# Altium schematic symbol library ebf EP4CE10 Mini_20200309_原理图库_AD格式.SCHLIB: 99 symbols
Pins are listed as number, name and electrical type; pins without a type are passive.

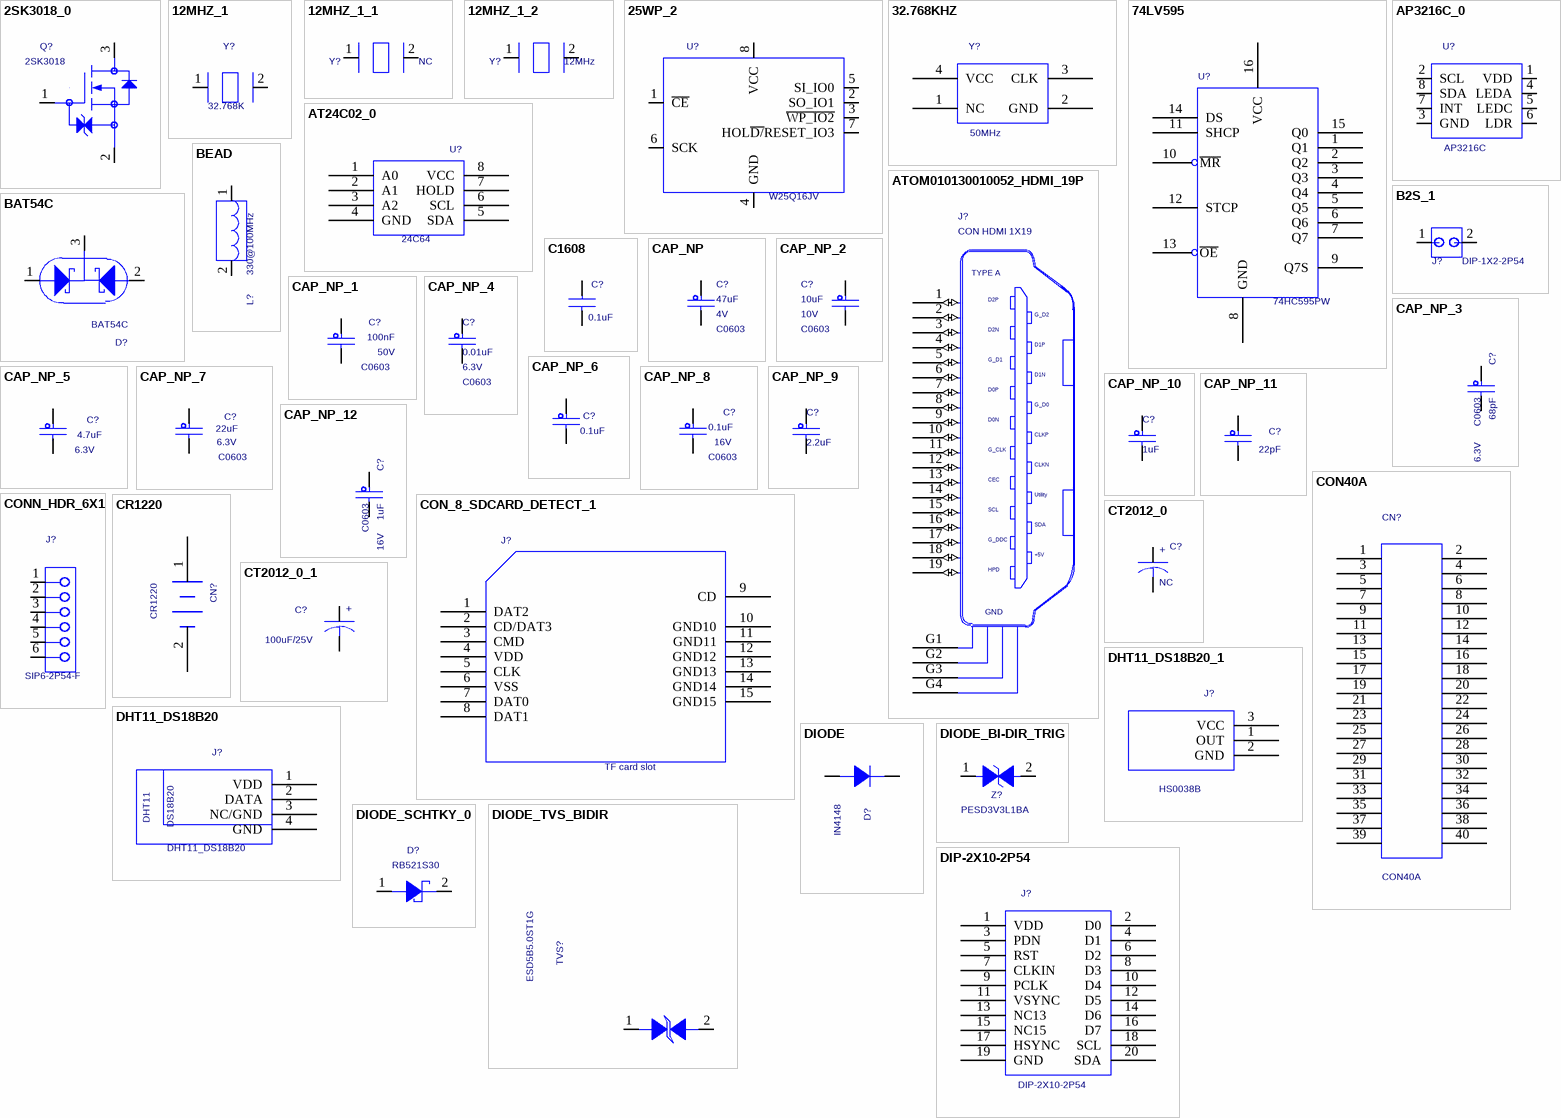
[diagram p0: symbols 2SK3018_0 to DIP-2X10-2P54]

## 2SK3018_0
designator Q?  value 2SK3018  (hidden comment: 2SK3018_0)
TRANS MOSFET N-CH 30V .1A SOT-323; PCB DECAL: SOT23; CAD_APPROVED: Yes; MFG_PN01: 2SK3018T106; MFG_NAME01: ROHM; AGILE_PN: 480-75317; Source_Path: H:\NXP_RT1050\SCH\CORE_SCH\IMXRT1052_180113.DSN; CLASS: IC; HEIGHT: 0.9MM; ROHS: Yes
footprint SOT23
pins: 1 GATE, 2 SOURCE, 3 DRAIN

## 12MHZ_1
designator Y?  value 32.768K  (hidden comment: 12MHZ_1)
PCB DECAL: 3215; Source_Path: H:\NXP_RT1050\SCH\IMXRT1052_MB.DSN
footprint 3215
pins: 1, 2

## 12MHZ_1_1
designator Y?, comment value NC  (hidden comment: 12MHZ_1)
PCB DECAL: XTAL-DIP; Source_Path: H:\NXP_RT1050\SCH\IMXRT1052_MB.DSN
footprint XTAL-DIP
pins: 1, 2

## 12MHZ_1_2
designator Y?, comment value 12MHz  (hidden comment: 12MHZ_1)
PCB DECAL: XTAL_SMD; Source_Path: H:\NXP_RT1050\SCH\IMXRT1052_MB.DSN
footprint XTAL_SMD
pins: 1, 2

## 25WP_2
designator U?  value W25Q16JV  (hidden comment: 25WP_2)
IC MEM FLASH QPI 64Mb 1.65-1.95V SOIC8W; PCB DECAL: SOIC8-208; CAD_APPROVED: Yes; Temp_Range: -40C to +105C; MFG_PN01: IS25WP064A-JBLE; MFG_NAME01: ISSI; AGILE_PN: 334-77734; Source_Path: H:\NXP_RT1050\SCH\SCHLIB\IMXRT1052_1205.DSN; HEIGHT: 2.16MM; ROHS: Yes; CLASS: IC
footprint SOIC8-208
pins: 1 ~{CE}, 2 SO_IO1, 3 ~{WP_IO2}, 4 GND (power), 5 SI_IO0, 6 SCK, 7 HOL~{D/}RESET_IO3, 8 VCC (power)

## 32.768KHZ
designator Y?  value 50MHz  (hidden comment: 32.768KHZ)
PCB DECAL: 3225; Source_Path: F:\NXP\I.MX6UL\SCH\IMX6UL.OLB
footprint 3225
pins: 1 NC, 2 GND, 3 CLK, 4 VCC

## 74LV595
designator U?  value 74HC595PW  (hidden comment: 74LV595)
IC REG S 8BIT TS 1.0-3.6V TSSOP16; AGILE_PN: 312-79843; MFG_NAME01: PHILIPS SEMICONDUCTOR; MFG_PN01: 74LV595PW; CAD_APPROVED: Yes; Source_Path: Q:\ORCADCIS\SYMBOLS\FCL_IC5.OLB; PCB DECAL: TSSOP16; ROHS: Yes; HEIGHT: 1.1MM; CLASS: IC
footprint TSSOP16
pins: 1 Q1, 2 Q2, 3 Q3, 4 Q4, 5 Q5, 6 Q6, 7 Q7, 8 GND (power), 9 Q7S, 10 ~{MR}, 11 SHCP, 12 STCP, 13 ~{OE}, 14 DS, 15 Q0, 16 VCC (power)

## AP3216C_0
designator U?  value AP3216C  (hidden comment: AP3216C_0)
Source_Path: D:\NXP_RT1050\RT1050_MB_PRO\SCH\IMXRT1052_MB_PRO_0414.DSN; PCB DECAL: AP3216C
footprint AP3216C
pins: 1 VDD, 2 SCL, 3 GND, 4 LEDA, 5 LEDC, 6 LDR, 7 INT, 8 SDA

## AT24C02_0
designator U?  value 24C64  (hidden comment: AT24C02_0)
PCB DECAL: SOP8; Source_Path: F:\STM32\F407\F407 PRO\SCH\野火_F407霸天虎_原理图_V2.0.DSN; OriginalSymbolOrigin: (-20000,30000)
footprint SOP8
pins: 1 A0, 2 A1, 3 A2, 4 GND, 5 SDA, 6 SCL, 7 HOLD, 8 VCC

## ATOM010130010052_HDMI_19P
designator J?  value CON HDMI 1X19  (hidden comment: ATOM010130010052_HDMI_19P)
CON 1X19 HDMI SMT 0.5MM 249H AU --; PCB DECAL: CON_RA_HDMI_19P_0P5_SM; AGILE_PN: 211-79674; MFG_NAME01: SHENZHEN ATOM TECHNOLOGY CO.,LTD; MFG_PN01: HD119F-3A04202; ASSY_OPT: DNP; CAD_APPROVED: Yes; Source_Path: Q:\ORCADCIS\SYMBOLS\FCL_CONNECTOR.OLB; CLASS: IO; OriginalSymbolOrigin: (-200,650); Vendor: Comtek; VPN: 1166-2C105-211; ROHS: Yes; HEIGHT: 6.33MM
footprint CON_RA_HDMI_19P_0P5_SM
pins: 1 D2+ (io), 2 D2GND (io), 3 D2- (io), 4 D1+ (io), 5 D1GND (io), 6 D1- (io), 7 D0+ (io), 8 D0GND (io), 9 D0- (io), 10 CK+ (io), 11 CKGND (io), 12 CK- (io), 13 CEC (io), 14 UTILITY (io), 15 SCL (io), 16 SDA (io), 17 DDCGND (io), 18 +5V (io), 19 HPD (io), G1 GND1 (power), G2 GND2 (power), G3 GND3 (power), G4 GND4 (power)
text: TYPE A; D2P; G_D2; D2N; D1P; G_D1; D1N; D0P; G_D0; D0N; CLKP; G_CLK; CLKN; Utility; G_DDC; GND

## B2S_1
designator J?  value DIP-1X2-2P54  (hidden comment: B2S_1)
PCB DECAL: HDR102; Source_Path: F:\STM32\F429\SCH\V4\STM32F429_F767_H743_MB_1129.DSN
footprint HDR102
pins: 1, 2

## BAT54C
designator D?
PCB DECAL: SOT23; Source_Path: C:\MYPROGRAM\CADENCE\SPB_16.6\TOOLS\CAPTURE\LIBRARY\SCH.OLB; Value: BAT54C
footprint SOT23
pins: 1 ANODE, 2 NC, 3 CATHODE

## BEAD
designator L?  value 330@100MHz  (hidden comment: BEAD)
IND FER BEAD 330OHM@100MHZ 1.7A 0603; PART_TYPE: FERRITE\BEAD; TOL: 25%; CAD_APPROVED: Yes; MFG_PN01: MPZ1608S331A; MFG_NAME01: TDK; AGILE_PN: 180-78156; PCB DECAL: L0603; Source_Path: Q:\ORCADCIS\SYMBOLS\FCL_INDUCTOR.OLB; CLASS: DISCRETE; HEIGHT: 0.95MM; ROHS: Yes; Tolerance: 25%
footprint L0603
pins: 1, 2

## C1608
designator C?  value 0.1uF  (hidden comment: C1608)
PCB DECAL: C0603; Source_Path: D:\SOPGODS_VIEW_AP\MOBILE_AP_APPLICATION\LIBRARY\ORCAD\DEVICE.OLB
footprint C0603
pins: 1, 2

## CAP_NP
designator C?  value 47uF  PCB DECAL: C0603  voltage_rating: 4V  (hidden comment: CAP_NP)
CAP CER 22UF 6.3V 20% X5R 0603; FPLIST: CC0603_OV,CC0603,0603_CC; CAD_APPROVED: Yes; MFG_PN01: CL10A226MQ8NRNE; MFG_NAME01: Samsung; AGILE_PN: 150-78467; Source_Path: Q:\ORCADCIS\SYMBOLS\FCL_CAPACITOR.OLB; CLASS: DISCRETE; VOLTAGE: 6.3V; HEIGHT: 1MM; ROHS: Yes; Tolerance: 20%
footprint C0603
pins: 1, 2

## CAP_NP_1
designator C?, comment value 100nF  PCB DECAL: C0603  voltage_rating: 50V  (hidden comment: CAP_NP)
CAP CER 22UF 6.3V 20% X5R 0603; FPLIST: CC0603_OV,CC0603,0603_CC; CAD_APPROVED: Yes; MFG_PN01: CL10A226MQ8NRNE; MFG_NAME01: Samsung; AGILE_PN: 150-78467; Source_Path: Q:\ORCADCIS\SYMBOLS\FCL_CAPACITOR.OLB; CLASS: DISCRETE; VOLTAGE: 6.3V; HEIGHT: 1MM; ROHS: Yes; Tolerance: 20%
footprint C0603
pins: 1, 2

## CAP_NP_2
designator C?, comment value 10uF  PCB DECAL: C0603  voltage_rating: 10V  (hidden comment: CAP_NP)
CAP CER 22UF 6.3V 20% X5R 0603; FPLIST: CC0603_OV,CC0603,0603_CC; CAD_APPROVED: Yes; MFG_PN01: CL10A226MQ8NRNE; MFG_NAME01: Samsung; AGILE_PN: 150-78467; Source_Path: Q:\ORCADCIS\SYMBOLS\FCL_CAPACITOR.OLB; CLASS: DISCRETE; VOLTAGE: 6.3V; HEIGHT: 1MM; ROHS: Yes; Tolerance: 20%
footprint C0603
pins: 1, 2

## CAP_NP_3
designator C?, comment value 68pF  PCB DECAL: C0603  VOLTAGE: 6.3V  (hidden comment: CAP_NP)
CAP CER 0.22UF 6.3V 20% X5R 0402; FPLIST: CC0402_25,CC0402_HD,0402_CC; CAD_APPROVED: Yes; MFG_PN01: C0402C224M9PAC; MFG_NAME01: KEMET; AGILE_PN: 150-76271; Source_Path: Q:\ORCADCIS\SYMBOLS\FCL_CAPACITOR.OLB; CLASS: DISCRETE; HEIGHT: 0.55MM; ROHS: Yes; Tolerance: 20%
footprint C0603
pins: 1, 2

## CAP_NP_4
designator C?, comment value 0.01uF  PCB DECAL: C0603  VOLTAGE: 6.3V  (hidden comment: CAP_NP)
CAP CER 0.22UF 6.3V 20% X5R 0402; FPLIST: CC0402_25,CC0402_HD,0402_CC; CAD_APPROVED: Yes; MFG_PN01: C0402C224M9PAC; MFG_NAME01: KEMET; AGILE_PN: 150-76271; Source_Path: Q:\ORCADCIS\SYMBOLS\FCL_CAPACITOR.OLB; CLASS: DISCRETE; HEIGHT: 0.55MM; ROHS: Yes; Tolerance: 20%
footprint C0603
pins: 1, 2

## CAP_NP_5
designator C?, comment value 4.7uF  voltage_rating: 6.3V  (hidden comment: CAP_NP)
CAP CER 4.7UF 6.3V 20% X5R 0402; FPLIST: CC0402_25,CC0402_HD,0402_CC; CAD_APPROVED: Yes; MFG_PN01: C1005X5R0J475M050BC; MFG_NAME01: TDK; AGILE_PN: 150-78463; PCB DECAL: C0603; Source_Path: Q:\ORCADCIS\SYMBOLS\FCL_CAPACITOR.OLB; CLASS: DISCRETE; HEIGHT: 0.65MM; ROHS: Yes; Tolerance: 20%; VOLTAGE: 6.3V
footprint C0603
pins: 1, 2

## CAP_NP_6
designator C?, comment value 0.1uF  (hidden comment: CAP_NP)
CAP CER 0.1UF 10V 10% X5R 0402; FPLIST: CC0402_25,CC0402_HD,0402_CC; CAD_APPROVED: Yes; MFG_PN01: C0402C104K8PAC; MFG_NAME01: KEMET; AGILE_PN: 150-75634; PCB DECAL: C0603; Source_Path: Q:\ORCADCIS\SYMBOLS\FCL_CAPACITOR.OLB; CLASS: DISCRETE; VOLTAGE: 10V; HEIGHT: 0.64MM; ROHS: Yes; Tolerance: 10%
footprint C0603
pins: 1, 2

## CAP_NP_7
designator C?, comment value 22uF  PCB DECAL: C0603  voltage_rating: 6.3V  (hidden comment: CAP_NP)
CAP CER 22UF 6.3V 20% X5R 0603; AGILE_PN: 150-78467; MFG_NAME01: Samsung; MFG_PN01: CL10A226MQ8NRNE; CAD_APPROVED: Yes; FPLIST: CC0603_OV,CC0603,0603_CC; Source_Path: Q:\ORCADCIS\SYMBOLS\FCL_CAPACITOR.OLB; CLASS: DISCRETE; Tolerance: 20%; ROHS: Yes; HEIGHT: 1MM; VOLTAGE: 6.3V
footprint C0603
pins: 1, 2

## CAP_NP_8
designator C?, comment value 0.1uF  voltage_rating: 16V  PCB DECAL: C0603  (hidden comment: CAP_NP)
CAP CER 22UF 6.3V 20% X5R 0603; AGILE_PN: 150-78467; MFG_NAME01: Samsung; MFG_PN01: CL10A226MQ8NRNE; CAD_APPROVED: Yes; FPLIST: CC0603_OV,CC0603,0603_CC; Source_Path: Q:\ORCADCIS\SYMBOLS\FCL_CAPACITOR.OLB; CLASS: DISCRETE; Tolerance: 20%; ROHS: Yes; HEIGHT: 1MM; VOLTAGE: 6.3V
footprint C0603
pins: 1, 2

## CAP_NP_9
designator C?, comment value 2.2uF  (hidden comment: CAP_NP)
CAP CER 0.1UF 10V 10% X5R 0402; PCB DECAL: C0603; AGILE_PN: 150-75634; MFG_NAME01: KEMET; MFG_PN01: C0402C104K8PAC; CAD_APPROVED: Yes; FPLIST: CC0402_25,CC0402_HD,0402_CC; Source_Path: Q:\ORCADCIS\SYMBOLS\FCL_CAPACITOR.OLB; CLASS: DISCRETE; Tolerance: 10%; ROHS: Yes; HEIGHT: 0.64MM; VOLTAGE: 10V
footprint C0603
pins: 1, 2

## CAP_NP_10
designator C?, comment value 1uF  (hidden comment: CAP_NP)
CAP CER 0.1UF 10V 10% X5R 0402; PCB DECAL: C0603; AGILE_PN: 150-75634; MFG_NAME01: KEMET; MFG_PN01: C0402C104K8PAC; CAD_APPROVED: Yes; FPLIST: CC0402_25,CC0402_HD,0402_CC; Source_Path: Q:\ORCADCIS\SYMBOLS\FCL_CAPACITOR.OLB; CLASS: DISCRETE; Tolerance: 10%; ROHS: Yes; HEIGHT: 0.64MM; VOLTAGE: 10V
footprint C0603
pins: 1, 2

## CAP_NP_11
designator C?, comment value 22pF  (hidden comment: CAP_NP)
CAP CER 0.1UF 10V 10% X5R 0402; FPLIST: CC0402_25,CC0402_HD,0402_CC; CAD_APPROVED: Yes; MFG_PN01: C0402C104K8PAC; MFG_NAME01: KEMET; AGILE_PN: 150-75634; PCB DECAL: C0603; Source_Path: Q:\ORCADCIS\SYMBOLS\FCL_CAPACITOR.OLB; CLASS: DISCRETE; VOLTAGE: 10V; HEIGHT: 0.64MM; ROHS: Yes; Tolerance: 10%
footprint C0603
pins: 1, 2

## CAP_NP_12
designator C?, comment value 1uF  PCB DECAL: C0603  voltage_rating: 16V  (hidden comment: CAP_NP)
CAP CER 22UF 6.3V 20% X5R 0603; AGILE_PN: 150-78467; MFG_NAME01: Samsung; MFG_PN01: CL10A226MQ8NRNE; CAD_APPROVED: Yes; FPLIST: CC0603_OV,CC0603,0603_CC; Source_Path: Q:\ORCADCIS\SYMBOLS\FCL_CAPACITOR.OLB; CLASS: DISCRETE; Tolerance: 20%; ROHS: Yes; HEIGHT: 1MM; VOLTAGE: 6.3V
footprint C0603
pins: 1, 2

## CON40A
designator CN?
PCB DECAL: DIP-2X20_2P54; Source_Path: C:\MYPROGRAM\CADENCE\SPB_16.6\TOOLS\CAPTURE\LIBRARY\CONNECTOR.OLB; Value: CON40A
footprint DIP-2X20_2P54
pins: 1, 2, 3, 4, 5, 6, 7, 8, 9, 10, 11, 12, 13, 14, 15, 16, 17, 18, 19, 20, 21, 22, 23, 24, 25, 26, 27, 28, 29, 30, 31, 32, 33, 34, 35, 36, 37, 38, 39, 40

## CON_8_SDCARD_DETECT_1
designator J?  value TF card slot  (hidden comment: CON_8_SDCARD_DETECT_1)
CON 8 SKT SD/MMC PUSH-PUSH RA SMT 1.1MM SP 83H AU; AGILE_PN: 211-80105; MFG_NAME01: ANYTRONIC CORPORATION LIMITED; MFG_PN01: 95060030-14RRF; CAD_APPROVED: Yes; PCB DECAL: TFCARD; Source_Path: H:\NXP_RT1050\SCH\IMXRT1052_MB.DSN; CLASS: IO; ROHS: Yes; HEIGHT: 2.1 MM
footprint TFCARD
pins: 1 DAT2, 2 CD/DAT3, 3 CMD, 4 VDD (power), 5 CLK, 6 VSS (power), 7 DAT0, 8 DAT1, 9 CD, 10 GND10, 11 GND11, 12 GND12, 13 GND13, 14 GND14, 15 GND15

## CONN_HDR_6X1
designator J?  value SIP6-2P54-F  (hidden comment: CONN_HDR_6X1)
CON 1X6 SKT TH 100MIL SP 344H AU 118L; AGILE_PN: 210-81616; MFG_NAME01: ANYTRONIC CORPORATION LIMITED; MFG_PN01: 08001S3 0611-29RF; Temp_Range: -40°C to +105°C; ASSY_OPT: DNP; CAD_APPROVED: Yes; PCB DECAL: SIP6-2P54; Source_Path: Q:\ORCADCIS\SYMBOLS\FCL_CONNECTOR.OLB; CLASS: IO; ROHS: Yes; HEIGHT: 8.75MM
footprint SIP6-2P54
pins: 1, 2, 3, 4, 5, 6

## CR1220
designator CN?
Source_Path: H:\NXP_RT1050\SCH\SCHLIB\YHSCHLIB.OLB; PCB DECAL: CR1220; Value: CR1220
footprint CR1220
pins: 1 BAT, 2 GND

## CT2012_0
designator C?  value NC  (hidden comment: CT2012_0)
PCB DECAL: CAP100; Source_Path: D:\01_LSI_PROJECT\C100\00.SMDK俺惯\SCHEMATICS\C100\C100_CPU.OLB
footprint CAP100
pins: 1, 2
text: +

## CT2012_0_1
designator C?, comment value 100uF/25V  (hidden comment: CT2012_0)
PCB DECAL: EC6P3; Source_Path: D:\01_LSI_PROJECT\C100\00.SMDK俺惯\SCHEMATICS\C100\C100_CPU.OLB
footprint EC6P3
pins: 1, 2
text: +

## DHT11_DS18B20
designator J?
PCB DECAL: SIP4-2P54; Source_Path: H:\NXP_RT1050\SCH\SCHLIB\YHSCHLIB.OLB; Value: DHT11_DS18B20
footprint SIP4-2P54
pins: 1 VDD, 2 DATA, 3 NC/GND, 4 GND
text: DHT11; DS18B20

## DHT11_DS18B20_1
designator J?  value HS0038B  (hidden comment: DHT11_DS18B20_1)
PCB DECAL: SIP3-2P54; Source_Path: D:\NXP_RT1050\RT1050_MB_PRO\SCH\IMXRT1052_MB_PRO_0413.DSN
footprint SIP3-2P54
pins: 1 OUT, 2 GND, 3 VCC

## DIODE
designator D?  value IN4148  (hidden comment: DIODE)
PCB DECAL: D1206; Source_Path: C:\CADENCE\SPB_16.2\TOOLS\CAPTURE\LIBRARY\DISCRETE.OLB
footprint D1206
pins: 1 A, 2 K

## DIODE_BI-DIR_TRIG
designator Z?  value PESD3V3L1BA  (hidden comment: DIODE_BI-DIR_TRIG)
PCB DECAL: SOD323; Assembly: NC; ROOM: B-VGA_IN; Source_Path: D:\PCB_DATA\ORCAD_LIB\LRY2.OLB; Package: D0603
footprint SOD323
pins: 1, 2

## DIODE_SCHTKY_0
designator D?  value RB521S30  (hidden comment: DIODE_SCHTKY_0)
DIODE SCH RECT 200MA 30V AEC-Q101 SOD-523; PCB DECAL: SOD523; AGILE_PN: 480-79672; MFG_NAME01: NEXPERIA; MFG_PN01: RB521S30,115; CAD_APPROVED: Yes; Source_Path: H:\NXP_RT1050\SCH\IMXRT1052_CORE\CORE\IMXRT1052_1207.DSN; CLASS: IC; ROHS: Yes; HEIGHT: 0.65MM
footprint SOD523
pins: 1, 2

## DIODE_TVS_BIDIR
designator TVS?  value ESD5B5.0ST1G  (hidden comment: DIODE_TVS_BIDIR)
DIODE SUPPRESSOR 16A@30NS 5V@1UA SOD-523; PCB DECAL: SOD523; AGILE_PN: 480-76937; MFG_NAME01: on semiconductor; ASSY_OPT: DNP; CAD_APPROVED: Yes; Source_Path: Q:\ORCADCIS\SYMBOLS\FCL_SEMICONDUCTOR.OLB; CLASS: IC; MFG_PN01: ESD5B5.0ST1G; ROHS: Yes; HEIGHT: 0.7MM
footprint SOD523
pins: 1 A1, 2 A2

## DIP-2X10-2P54
designator J?
PCB DECAL: DIP-2X10_2P54; Source_Path: H:\NXP_RT1050\SCH\SCHLIB\YHSCHLIB.OLB; Value: DIP-2X10-2P54
footprint DIP-2X10_2P54
pins: 1 VDD, 2 D0, 3 PDN, 4 D1, 5 RST, 6 D2, 7 CLKIN, 8 D3, 9 PCLK, 10 D4, 11 VSYNC, 12 D5, 13 NC13, 14 D6, 15 NC15, 16 D7, 17 HSYNC, 18 SCL, 19 GND, 20 SDA

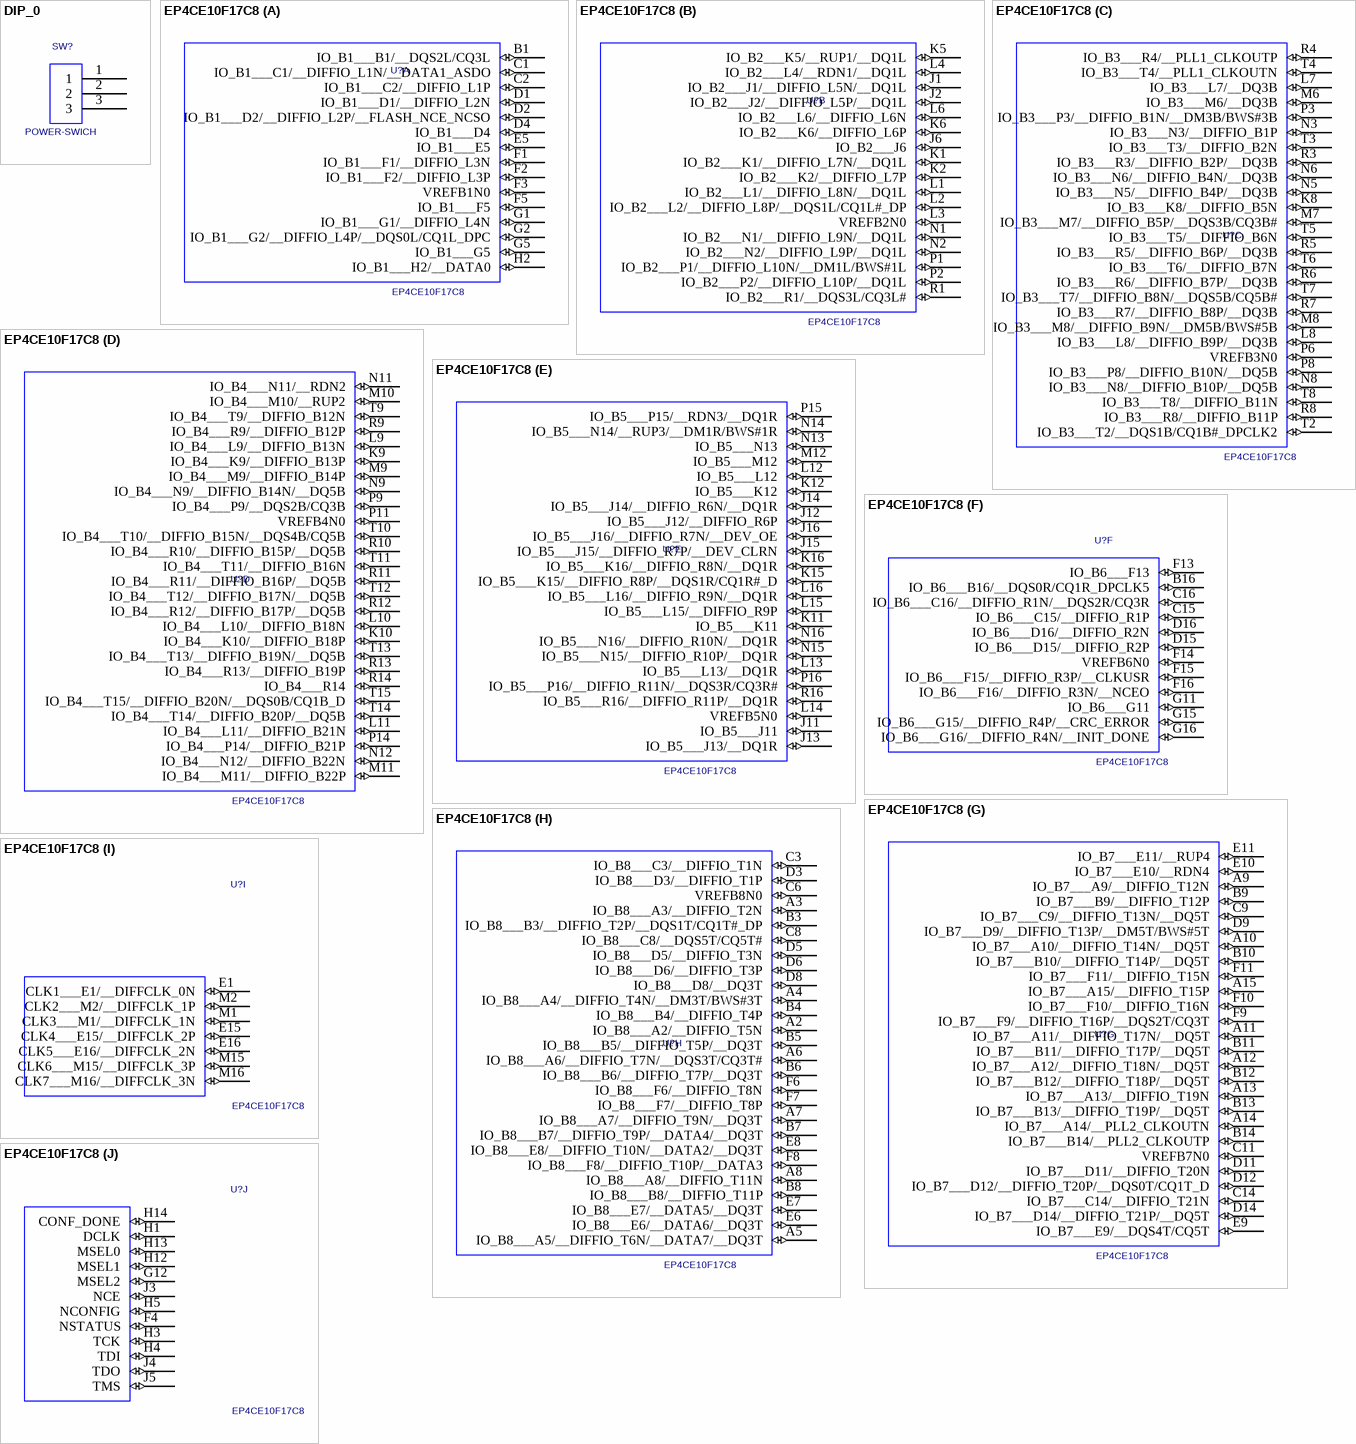
[diagram p1: symbols DIP_0 to EP4CE10F17C8]

## DIP_0
designator SW?  value POWER-SWICH  (hidden comment: DIP_0)
PCB DECAL: DIP_1_7_4_7; Source_Path: C:\USERS\ADMINISTRATOR\DESKTOP\MIMI\EBFEP4CE10_MINI_191227_01.DSN
footprint DIP_1_7_4_7
pins: 1, 2, 3

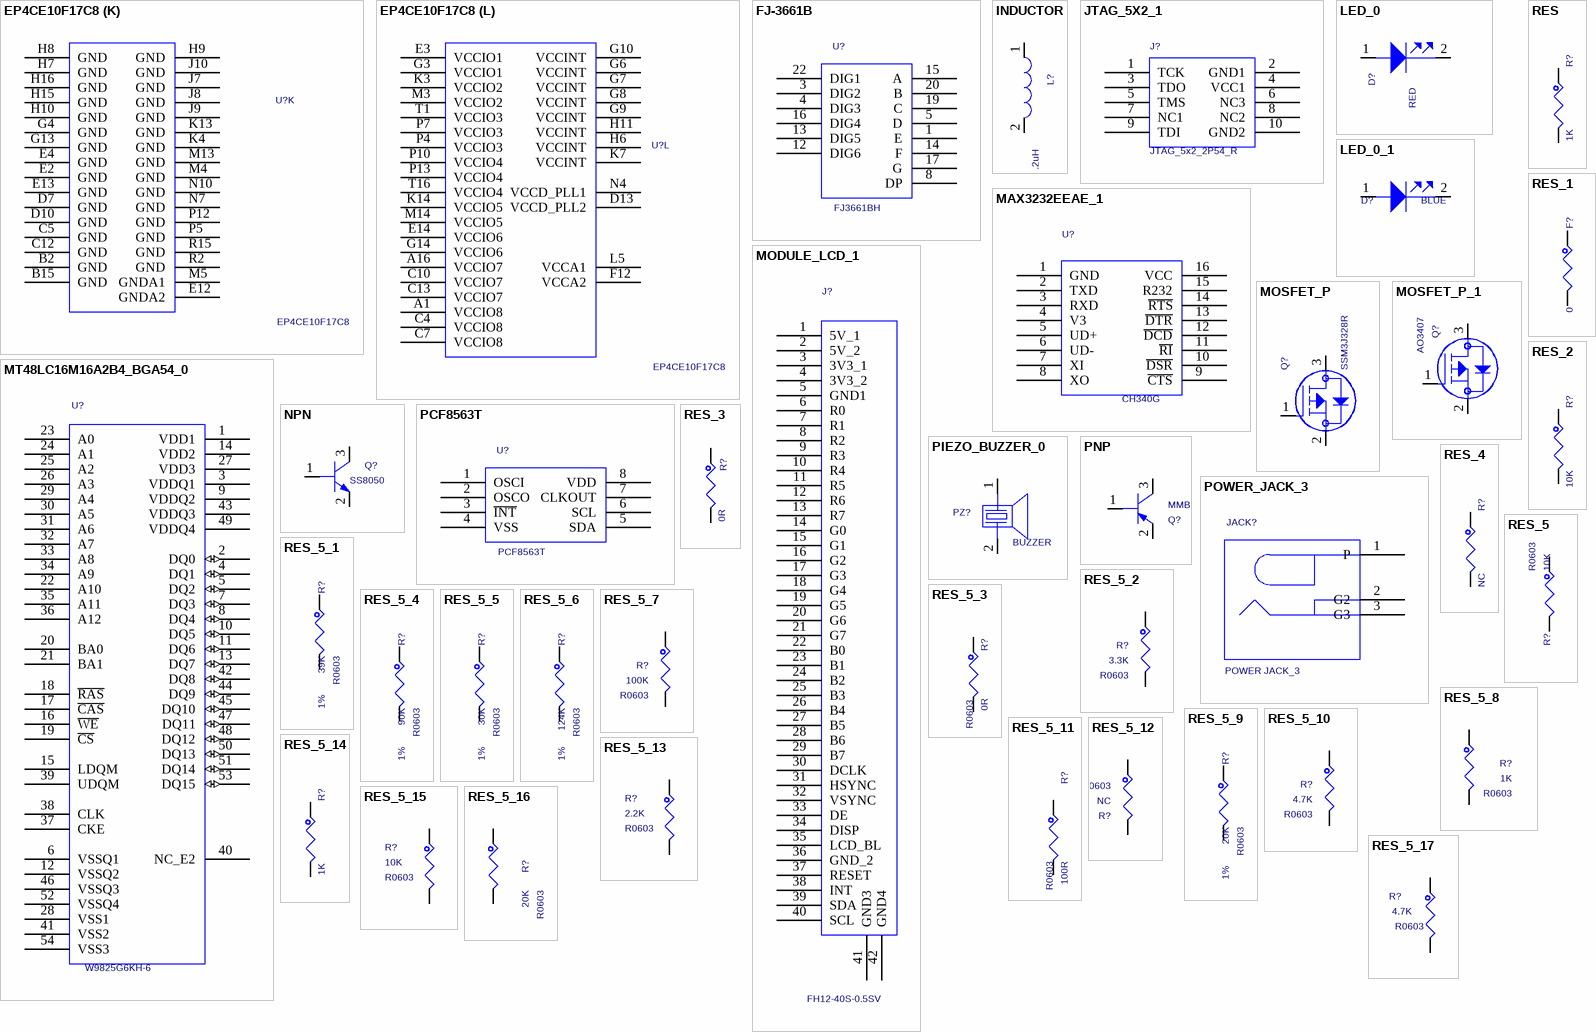
[diagram p2: symbols EP4CE10F17C8 to RES_5_17]

## EP4CE10F17C8
designator U?
PCB DECAL: FBGA256; Source_Path: F:\SCH-PCB\FPGA\EBF_F002\SCH\EBF_F002.OLB; Value: EP4CE10F17C8
footprint FBGA256
part A pins: B1 IO_B1___B1/__DQS2L/CQ3L (io), C1 IO_B1___C1/__DIFFIO_L1N/__DATA1_ASDO (io), C2 IO_B1___C2/__DIFFIO_L1P (io), D1 IO_B1___D1/__DIFFIO_L2N (io), D2 IO_B1___D2/__DIFFIO_L2P/__FLASH_NCE_NCSO (io), D4 IO_B1___D4 (io), E5 IO_B1___E5 (io), F1 IO_B1___F1/__DIFFIO_L3N (io), F2 IO_B1___F2/__DIFFIO_L3P (io), F3 VREFB1N0 (io), F5 IO_B1___F5 (io), G1 IO_B1___G1/__DIFFIO_L4N (io), G2 IO_B1___G2/__DIFFIO_L4P/__DQS0L/CQ1L_DPC (io), G5 IO_B1___G5 (io), H2 IO_B1___H2/__DATA0 (io)
part B pins: J1 IO_B2___J1/__DIFFIO_L5N/__DQ1L (io), J2 IO_B2___J2/__DIFFIO_L5P/__DQ1L (io), J6 IO_B2___J6 (io), K1 IO_B2___K1/__DIFFIO_L7N/__DQ1L (io), K2 IO_B2___K2/__DIFFIO_L7P (io), K5 IO_B2___K5/__RUP1/__DQ1L (io), K6 IO_B2___K6/__DIFFIO_L6P (io), L1 IO_B2___L1/__DIFFIO_L8N/__DQ1L (io), L2 IO_B2___L2/__DIFFIO_L8P/__DQS1L/CQ1L#_DP (io), L3 VREFB2N0 (io), L4 IO_B2___L4/__RDN1/__DQ1L (io), L6 IO_B2___L6/__DIFFIO_L6N (io), N1 IO_B2___N1/__DIFFIO_L9N/__DQ1L (io), N2 IO_B2___N2/__DIFFIO_L9P/__DQ1L (io), P1 IO_B2___P1/__DIFFIO_L10N/__DM1L/BWS#1L (io), P2 IO_B2___P2/__DIFFIO_L10P/__DQ1L (io), R1 IO_B2___R1/__DQS3L/CQ3L# (io)
part C pins: K8 IO_B3___K8/__DIFFIO_B5N (io), L7 IO_B3___L7/__DQ3B (io), L8 IO_B3___L8/__DIFFIO_B9P/__DQ3B (io), M6 IO_B3___M6/__DQ3B (io), M7 IO_B3___M7/__DIFFIO_B5P/__DQS3B/CQ3B# (io), M8 IO_B3___M8/__DIFFIO_B9N/__DM5B/BWS#5B (io), N3 IO_B3___N3/__DIFFIO_B1P (io), N5 IO_B3___N5/__DIFFIO_B4P/__DQ3B (io), N6 IO_B3___N6/__DIFFIO_B4N/__DQ3B (io), N8 IO_B3___N8/__DIFFIO_B10P/__DQ5B (io), P3 IO_B3___P3/__DIFFIO_B1N/__DM3B/BWS#3B (io), P6 VREFB3N0 (io), P8 IO_B3___P8/__DIFFIO_B10N/__DQ5B (io), R3 IO_B3___R3/__DIFFIO_B2P/__DQ3B (io), R4 IO_B3___R4/__PLL1_CLKOUTP (io), R5 IO_B3___R5/__DIFFIO_B6P/__DQ3B (io), R6 IO_B3___R6/__DIFFIO_B7P/__DQ3B (io), R7 IO_B3___R7/__DIFFIO_B8P/__DQ3B (io), R8 IO_B3___R8/__DIFFIO_B11P (io), T2 IO_B3___T2/__DQS1B/CQ1B#_DPCLK2 (io), T3 IO_B3___T3/__DIFFIO_B2N (io), T4 IO_B3___T4/__PLL1_CLKOUTN (io), T5 IO_B3___T5/__DIFFIO_B6N (io), T6 IO_B3___T6/__DIFFIO_B7N (io), T7 IO_B3___T7/__DIFFIO_B8N/__DQS5B/CQ5B# (io), T8 IO_B3___T8/__DIFFIO_B11N (io)
part D pins: K9 IO_B4___K9/__DIFFIO_B13P (io), K10 IO_B4___K10/__DIFFIO_B18P (io), L9 IO_B4___L9/__DIFFIO_B13N (io), L10 IO_B4___L10/__DIFFIO_B18N (io), L11 IO_B4___L11/__DIFFIO_B21N (io), M9 IO_B4___M9/__DIFFIO_B14P (io), M10 IO_B4___M10/__RUP2 (io), M11 IO_B4___M11/__DIFFIO_B22P (io), N9 IO_B4___N9/__DIFFIO_B14N/__DQ5B (io), N11 IO_B4___N11/__RDN2 (io), N12 IO_B4___N12/__DIFFIO_B22N (io), P9 IO_B4___P9/__DQS2B/CQ3B (io), P11 VREFB4N0 (io), P14 IO_B4___P14/__DIFFIO_B21P (io), R9 IO_B4___R9/__DIFFIO_B12P (io), R10 IO_B4___R10/__DIFFIO_B15P/__DQ5B (io), R11 IO_B4___R11/__DIFFIO_B16P/__DQ5B (io), R12 IO_B4___R12/__DIFFIO_B17P/__DQ5B (io), R13 IO_B4___R13/__DIFFIO_B19P (io), R14 IO_B4___R14 (io), T9 IO_B4___T9/__DIFFIO_B12N (io), T10 IO_B4___T10/__DIFFIO_B15N/__DQS4B/CQ5B (io), T11 IO_B4___T11/__DIFFIO_B16N (io), T12 IO_B4___T12/__DIFFIO_B17N/__DQ5B (io), T13 IO_B4___T13/__DIFFIO_B19N/__DQ5B (io), T14 IO_B4___T14/__DIFFIO_B20P/__DQ5B (io), T15 IO_B4___T15/__DIFFIO_B20N/__DQS0B/CQ1B_D (io)
part E pins: J11 IO_B5___J11 (io), J12 IO_B5___J12/__DIFFIO_R6P (io), J13 IO_B5___J13/__DQ1R (io), J14 IO_B5___J14/__DIFFIO_R6N/__DQ1R (io), J15 IO_B5___J15/__DIFFIO_R7P/__DEV_CLRN (io), J16 IO_B5___J16/__DIFFIO_R7N/__DEV_OE (io), K11 IO_B5___K11 (io), K12 IO_B5___K12 (io), K15 IO_B5___K15/__DIFFIO_R8P/__DQS1R/CQ1R#_D (io), K16 IO_B5___K16/__DIFFIO_R8N/__DQ1R (io), L12 IO_B5___L12 (io), L13 IO_B5___L13/__DQ1R (io), L14 VREFB5N0 (io), L15 IO_B5___L15/__DIFFIO_R9P (io), L16 IO_B5___L16/__DIFFIO_R9N/__DQ1R (io), M12 IO_B5___M12 (io), N13 IO_B5___N13 (io), N14 IO_B5___N14/__RUP3/__DM1R/BWS#1R (io), N15 IO_B5___N15/__DIFFIO_R10P/__DQ1R (io), N16 IO_B5___N16/__DIFFIO_R10N/__DQ1R (io), P15 IO_B5___P15/__RDN3/__DQ1R (io), P16 IO_B5___P16/__DIFFIO_R11N/__DQS3R/CQ3R# (io), R16 IO_B5___R16/__DIFFIO_R11P/__DQ1R (io)
part F pins: B16 IO_B6___B16/__DQS0R/CQ1R_DPCLK5 (io), C15 IO_B6___C15/__DIFFIO_R1P (io), C16 IO_B6___C16/__DIFFIO_R1N/__DQS2R/CQ3R (io), D15 IO_B6___D15/__DIFFIO_R2P (io), D16 IO_B6___D16/__DIFFIO_R2N (io), F13 IO_B6___F13 (io), F14 VREFB6N0 (io), F15 IO_B6___F15/__DIFFIO_R3P/__CLKUSR (io), F16 IO_B6___F16/__DIFFIO_R3N/__NCEO (io), G11 IO_B6___G11 (io), G15 IO_B6___G15/__DIFFIO_R4P/__CRC_ERROR (io), G16 IO_B6___G16/__DIFFIO_R4N/__INIT_DONE (io)
part G pins: A9 IO_B7___A9/__DIFFIO_T12N (io), A10 IO_B7___A10/__DIFFIO_T14N/__DQ5T (io), A11 IO_B7___A11/__DIFFIO_T17N/__DQ5T (io), A12 IO_B7___A12/__DIFFIO_T18N/__DQ5T (io), A13 IO_B7___A13/__DIFFIO_T19N (io), A14 IO_B7___A14/__PLL2_CLKOUTN (io), A15 IO_B7___A15/__DIFFIO_T15P (io), B9 IO_B7___B9/__DIFFIO_T12P (io), B10 IO_B7___B10/__DIFFIO_T14P/__DQ5T (io), B11 IO_B7___B11/__DIFFIO_T17P/__DQ5T (io), B12 IO_B7___B12/__DIFFIO_T18P/__DQ5T (io), B13 IO_B7___B13/__DIFFIO_T19P/__DQ5T (io), B14 IO_B7___B14/__PLL2_CLKOUTP (io), C9 IO_B7___C9/__DIFFIO_T13N/__DQ5T (io), C11 VREFB7N0 (io), C14 IO_B7___C14/__DIFFIO_T21N (io), D9 IO_B7___D9/__DIFFIO_T13P/__DM5T/BWS#5T (io), D11 IO_B7___D11/__DIFFIO_T20N (io), D12 IO_B7___D12/__DIFFIO_T20P/__DQS0T/CQ1T_D (io), D14 IO_B7___D14/__DIFFIO_T21P/__DQ5T (io), E9 IO_B7___E9/__DQS4T/CQ5T (io), E10 IO_B7___E10/__RDN4 (io), E11 IO_B7___E11/__RUP4 (io), F9 IO_B7___F9/__DIFFIO_T16P/__DQS2T/CQ3T (io), F10 IO_B7___F10/__DIFFIO_T16N (io), F11 IO_B7___F11/__DIFFIO_T15N (io)
part H pins: A2 IO_B8___A2/__DIFFIO_T5N (io), A3 IO_B8___A3/__DIFFIO_T2N (io), A4 IO_B8___A4/__DIFFIO_T4N/__DM3T/BWS#3T (io), A5 IO_B8___A5/__DIFFIO_T6N/__DATA7/__DQ3T (io), A6 IO_B8___A6/__DIFFIO_T7N/__DQS3T/CQ3T# (io), A7 IO_B8___A7/__DIFFIO_T9N/__DQ3T (io), A8 IO_B8___A8/__DIFFIO_T11N (io), B3 IO_B8___B3/__DIFFIO_T2P/__DQS1T/CQ1T#_DP (io), B4 IO_B8___B4/__DIFFIO_T4P (io), B5 IO_B8___B5/__DIFFIO_T5P/__DQ3T (io), B6 IO_B8___B6/__DIFFIO_T7P/__DQ3T (io), B7 IO_B8___B7/__DIFFIO_T9P/__DATA4/__DQ3T (io), B8 IO_B8___B8/__DIFFIO_T11P (io), C3 IO_B8___C3/__DIFFIO_T1N (io), C6 VREFB8N0 (io), C8 IO_B8___C8/__DQS5T/CQ5T# (io), D3 IO_B8___D3/__DIFFIO_T1P (io), D5 IO_B8___D5/__DIFFIO_T3N (io), D6 IO_B8___D6/__DIFFIO_T3P (io), D8 IO_B8___D8/__DQ3T (io), E6 IO_B8___E6/__DATA6/__DQ3T (io), E7 IO_B8___E7/__DATA5/__DQ3T (io), E8 IO_B8___E8/__DIFFIO_T10N/__DATA2/__DQ3T (io), F6 IO_B8___F6/__DIFFIO_T8N (io), F7 IO_B8___F7/__DIFFIO_T8P (io), F8 IO_B8___F8/__DIFFIO_T10P/__DATA3 (io)
part I pins: E1 CLK1___E1/__DIFFCLK_0N (io), E15 CLK4___E15/__DIFFCLK_2P (io), E16 CLK5___E16/__DIFFCLK_2N (io), M1 CLK3___M1/__DIFFCLK_1N (io), M2 CLK2___M2/__DIFFCLK_1P (io), M15 CLK6___M15/__DIFFCLK_3P (io), M16 CLK7___M16/__DIFFCLK_3N (io)
part J pins: F4 NSTATUS (io), G12 MSEL2 (io), H1 DCLK (io), H3 TCK (io), H4 TDI (io), H5 NCONFIG (io), H12 MSEL1 (io), H13 MSEL0 (io), H14 CONF_DONE (io), J3 NCE (io), J4 TDO (io), J5 TMS (io)
part K pins: B2 GND (power), B15 GND (power), C5 GND (power), C12 GND (power), D7 GND (power), D10 GND (power), E2 GND (power), E4 GND (power), E12 GNDA2 (power), E13 GND (power), G4 GND (power), G13 GND (power), H7 GND (power), H8 GND (power), H9 GND (power), H10 GND (power), H15 GND (power), H16 GND (power), J7 GND (power), J8 GND (power), J9 GND (power), J10 GND (power), K4 GND (power), K13 GND (power), M4 GND (power), M5 GNDA1 (power), M13 GND (power), N7 GND (power), N10 GND (power), P5 GND (power), P12 GND (power), R2 GND (power), R15 GND (power)
part L pins: A1 VCCIO8 (power), A16 VCCIO7 (power), C4 VCCIO8 (power), C7 VCCIO8 (power), C10 VCCIO7 (power), C13 VCCIO7 (power), D13 VCCD_PLL2 (power), E3 VCCIO1 (power), E14 VCCIO6 (power), F12 VCCA2 (power), G3 VCCIO1 (power), G6 VCCINT (power), G7 VCCINT (power), G8 VCCINT (power), G9 VCCINT (power), G10 VCCINT (power), G14 VCCIO6 (power), H6 VCCINT (power), H11 VCCINT (power), K3 VCCIO2 (power), K7 VCCINT (power), K14 VCCIO5 (power), L5 VCCA1 (power), M3 VCCIO2 (power), M14 VCCIO5 (power), N4 VCCD_PLL1 (power), P4 VCCIO3 (power), P7 VCCIO3 (power), P10 VCCIO4 (power), P13 VCCIO4 (power), T1 VCCIO3 (power), T16 VCCIO4 (power)

## FJ-3661B
designator U?  value FJ3661BH  (hidden comment: FJ-3661B)
PCB DECAL: FJ3661; Source_Path: F:\SCH-PCB\FPGA\EBF_F002\SCH\EBF_F002.OLB
footprint FJ3661
pins: 1 E, 3 DIG2, 4 DIG3, 5 D, 8 DP, 12 DIG6, 13 DIG5, 14 F, 15 A, 16 DIG4, 17 G, 19 C, 20 B, 22 DIG1

## INDUCTOR
designator L?  value 2.2uH  (hidden comment: INDUCTOR)
IND WW PWR 1.5uH@1MHZ 2A 20% 2520; PART_TYPE: POWER; PCB DECAL: L2520; CAD_APPROVED: Yes; MFG_PN01: SPH252012H1R5MT; MFG_NAME01: Shenzhen Sunlord Electronics Co., Ltd; AGILE_PN: 180-78270; Source_Path: Q:\ORCADCIS\SYMBOLS\FCL_INDUCTOR.OLB; CLASS: DISCRETE; HEIGHT: 1.2MM; ROHS: Yes; Tolerance: 20%
footprint L2520
pins: 1, 2

## JTAG_5X2_1
designator J?  value JTAG_5x2_2P54_R  (hidden comment: JTAG_5X2_1)
Source_Path: F:\SCH-PCB\FPGA\EBF_F002\SCH\EBF_F002_1120_003.DSN; PCB DECAL: JTAG_5X2_2P54_R
footprint JTAG_5X2_2P54_R
pins: 1 TCK, 2 GND1, 3 TDO, 4 VCC1, 5 TMS, 6 NC3, 7 NC1, 8 NC2, 9 TDI, 10 GND2

## LED_0
designator D?  value RED  (hidden comment: LED_0)
LED GRN SGL 25MA 0603; PCB DECAL: LED0603; AGILE_PN: 370-76549; MFG_NAME01: KINGBRIGHT; MFG_PN01: KPT-1608SGC; CAD_APPROVED: Yes; Source_Path: H:\NXP_RT1050\SCH\IMXRT1052_CORE\CORE\IMXRT1052_1207.DSN; CLASS: IC; ROHS: Yes; HEIGHT: 0.85MM
footprint LED0603
pins: 1 ANODE, 2 CATHODE

## LED_0_1
designator D?, comment value BLUE  (hidden comment: LED_0)
LED GRN SGL 25MA 0603; PCB DECAL: LED0603; AGILE_PN: 370-76549; MFG_NAME01: KINGBRIGHT; MFG_PN01: KPT-1608SGC; CAD_APPROVED: Yes; Source_Path: H:\NXP_RT1050\SCH\IMXRT1052_CORE\CORE\IMXRT1052_1207.DSN; CLASS: IC; ROHS: Yes; HEIGHT: 0.85MM
footprint LED0603
pins: 1 ANODE, 2 CATHODE

## MAX3232EEAE_1
designator U?  value CH340G  (hidden comment: MAX3232EEAE_1)
PCB DECAL: SOIC16; Source_Path: H:\NXP_RT1050\SCH\IMXRT1052_MB.DSN
footprint SOIC16
pins: 1 GND, 2 TXD, 3 RXD, 4 V3, 5 UD+, 6 UD-, 7 XI, 8 XO, 9 ~{CTS}, 10 ~{DSR}, 11 ~{RI}, 12 ~{DCD}, 13 ~{DTR}, 14 ~{RTS}, 15 R232, 16 VCC (power)

## MODULE_LCD_1
designator J?  value FH12-40S-0.5SV  (hidden comment: MODULE_LCD_1)
SUBASSEMBLY CON 1X40 FPC SMT RA + CON 1X6 FPC/FFC RA SKT + TFT DISPLAY 4.3INCH; PCB DECAL: FPC-40S-0P5SV; CAD_APPROVED: Yes; MFG_PN01: 211-79974,211-79976,375-00010; AGILE_PN: 750-77763; Source_Path: F:\SCH-PCB\EBF_L007\SCH\EBF_L007_190919_1.DSN; CLASS: IO; HEIGHT: 6.75MM; ROHS: Yes; MFG_NAME01: SUBASSEMBLY
footprint FPC-40S-0P5SV
pins: 1 5V_1, 2 5V_2, 3 3V3_1, 4 3V3_2, 5 GND1, 6 R0, 7 R1, 8 R2, 9 R3, 10 R4, 11 R5, 12 R6, 13 R7, 14 G0, 15 G1, 16 G2, 17 G3, 18 G4, 19 G5, 20 G6, 21 G7, 22 B0, 23 B1, 24 B2, 25 B3, 26 B4, 27 B5, 28 B6, 29 B7, 30 DCLK, 31 HSYNC, 32 VSYNC, 33 DE, 34 DISP, 35 LCD_BL, 36 GND_2, 37 RESET, 38 INT, 39 SDA, 40 SCL, 41 GND3, 42 GND4

## MOSFET_P
designator Q?  value SSM3J328R  (hidden comment: MOSFET_P)
TRAN PMOS PWR 12V 4.3A SOT23; AGILE_PN: 480-77718; MFG_NAME01: INTERNATIONAL RECTIFIER; MFG_PN01: IRLML6401TRPBF; CAD_APPROVED: Yes; Source_Path: Q:\ORCADCIS\SYMBOLS\FCL_SEMICONDUCTOR.OLB; CLASS: IC; PCB DECAL: SOT23; ROHS: Yes; HEIGHT: 1.12MM
footprint SOT23
pins: 1 GATE, 2 SOURCE, 3 DRAIN

## MOSFET_P_1
designator Q?, comment value AO3407  (hidden comment: MOSFET_P)
TRAN PMOS PWR 12V 4.3A SOT23; CAD_APPROVED: Yes; MFG_PN01: IRLML6401TRPBF; MFG_NAME01: INTERNATIONAL RECTIFIER; AGILE_PN: 480-77718; Source_Path: Q:\ORCADCIS\SYMBOLS\FCL_SEMICONDUCTOR.OLB; CLASS: IC; PCB DECAL: SOT23; HEIGHT: 1.12MM; ROHS: Yes
footprint SOT23
pins: 1 GATE, 2 SOURCE, 3 DRAIN

## MT48LC16M16A2B4_BGA54_0
designator U?  value W9825G6KH-6  (hidden comment: MT48LC16M16A2B4_BGA54_0)
IC MEM SDRAM 16MX16 6NS 3.3V VFBGA54; PCB DECAL: TSOP54; CAD_APPROVED: Yes; MFG_PN01: MT48LC16M16A2B4-6A IT:G; MFG_NAME01: MICRON; AGILE_PN: 334-77696; Source_Path: H:\NXP_RT1050\SCH\IMXRT1052.DSN; HEIGHT: 1 MM; ROHS: Yes; CLASS: IC
footprint TSOP54
pins: 1 VDD1 (power), 2 DQ0 (io), 3 VDDQ1 (power), 4 DQ1 (io), 5 DQ2 (io), 6 VSSQ1 (power), 7 DQ3 (io), 8 DQ4 (io), 9 VDDQ2 (power), 10 DQ5 (io), 11 DQ6 (io), 12 VSSQ2 (power), 13 DQ7 (io), 14 VDD2 (power), 15 LDQM, 16 ~{WE}, 17 ~{CAS}, 18 ~{RAS}, 19 ~{CS}, 20 BA0, 21 BA1, 22 A10, 23 A0, 24 A1, 25 A2, 26 A3, 27 VDD3 (power), 28 VSS1 (power), 29 A4, 30 A5, 31 A6, 32 A7, 33 A8, 34 A9, 35 A11, 36 A12, 37 CKE, 38 CLK, 39 UDQM, 40 NC_E2, 41 VSS2 (power), 42 DQ8 (io), 43 VDDQ3 (power), 44 DQ9 (io), 45 DQ10 (io), 46 VSSQ3 (power), 47 DQ11 (io), 48 DQ12 (io), 49 VDDQ4 (power), 50 DQ13 (io), 51 DQ14 (io), 52 VSSQ4 (power), 53 DQ15 (io), 54 VSS3 (power)

## NPN
designator Q?  value SS8050  (hidden comment: NPN)
TRAN NPN GEN 0.5A 45V AEC-Q101 SOT23; CAD_APPROVED: Yes; MFG_PN01: BC817,215; MFG_NAME01: NEXPERIA; AGILE_PN: 480-78842; Source_Path: Q:\ORCADCIS\SYMBOLS\FCL_SEMICONDUCTOR.OLB; CLASS: IC; PCB DECAL: SOT23; HEIGHT: 1.1 MM; ROHS: Yes
footprint SOT23
pins: 1 BASE, 2 EMITTER, 3 COLLECTOR

## PCF8563T
designator U?
PCB DECAL: SOP8; Source_Path: F:\SCH-PCB\FPGA\EBF_F002\SCH\EBF_F002.OLB; Value: PCF8563T
footprint SOP8
pins: 1 OSCI, 2 OSCO, 3 ~{INT}, 4 VSS, 5 SDA, 6 SCL, 7 CLKOUT, 8 VDD

## PIEZO_BUZZER_0
designator PZ?  value BUZZER  (hidden comment: PIEZO_BUZZER_0)
Source_Path: D:\NXP_RT1050\RT1050_MB_PRO\SCH\IMXRT1052_MB_PRO_0417_4.DSN; PCB DECAL: BUZZER
footprint BUZZER
pins: 1 +, 2 -

## PNP
designator Q?  value MMBT3906LT1G  (hidden comment: PNP)
TRAN PNP GEN AMP 200MA 40V AEC-Q101 SC75; AGILE_PN: 480-78465; MFG_NAME01: ON SEMICONDUCTOR; MFG_PN01: MMBT3906TT1G; CAD_APPROVED: Yes; PCB DECAL: SOT23; Source_Path: Q:\ORCADCIS\SYMBOLS\FCL_SEMICONDUCTOR.OLB; CLASS: IC; ROHS: Yes; HEIGHT: 0.9 MM
footprint SOT23
pins: 1 B, 2 E, 3 C

## POWER_JACK_3
designator JACK?  value POWER JACK_3  (hidden comment: POWER_JACK_3)
PCB DECAL: JACK-2_5MM_B; Source_Path: E:\WORK\SCH5\X\SCH\DEVELOP_BOARD_V1-5-21.DSN
footprint JACK-2_5MM_B
pins: 1 P, 2 G2, 3 G3

## RES
designator R?  value 1K  (hidden comment: RES)
RES MF ZERO OHM 1/16W 5% 0402; PCB DECAL: R0603; AGILE_PN: 470-75394; MFG_NAME01: ROHM; MFG_PN01: MCR01MZPJ000; CAD_APPROVED: Yes; FPLIST: RC0402_25,RC0402_HD,RC0402_X2,0402_CC; Source_Path: Q:\ORCADCIS\SYMBOLS\FCL_RESISTOR.OLB; CLASS: DISCRETE; HEIGHT: 0.45 MM; Tolerance: 5%; ROHS: Yes
footprint R0603
pins: 1, 2

## RES_1
designator F?, comment value 0  (hidden comment: RES)
RES MF 1.0M 1/10W 5% 0402; PCB DECAL: F0805; AGILE_PN: 470-79978; MFG_NAME01: PANASONIC; MFG_PN01: ERJ-2GEJ105X; CAD_APPROVED: Yes; FPLIST: RC0402_25,RC0402_HD,0402_CC; Source_Path: Q:\ORCADCIS\SYMBOLS\FCL_RESISTOR.OLB; CLASS: DISCRETE; HEIGHT: 0.4MM; Tolerance: 5%; ROHS: Yes
footprint F0805
pins: 1, 2

## RES_2
designator R?, comment value 10K  (hidden comment: RES)
RES MF ZERO OHM 1/16W 5% 0402; PCB DECAL: R0603; FPLIST: RC0402_25,RC0402_HD,RC0402_X2,0402_CC; CAD_APPROVED: Yes; MFG_PN01: MCR01MZPJ000; MFG_NAME01: ROHM; AGILE_PN: 470-75394; Source_Path: Q:\ORCADCIS\SYMBOLS\FCL_RESISTOR.OLB; CLASS: DISCRETE; ROHS: Yes; Tolerance: 5%; HEIGHT: 0.45 MM
footprint R0603
pins: 1, 2

## RES_3
designator R?, comment value 0R  (hidden comment: RES)
RES MF ZERO OHM 1/16W 5% 0402; PCB DECAL: R0603; FPLIST: RC0402_25,RC0402_HD,RC0402_X2,0402_CC; CAD_APPROVED: Yes; MFG_PN01: MCR01MZPJ000; MFG_NAME01: ROHM; AGILE_PN: 470-75394; Source_Path: Q:\ORCADCIS\SYMBOLS\FCL_RESISTOR.OLB; CLASS: DISCRETE; ROHS: Yes; Tolerance: 5%; HEIGHT: 0.45 MM
footprint R0603
pins: 1, 2

## RES_4
designator R?, comment value NC  (hidden comment: RES)
RES MF ZERO OHM 1/16W 5% 0402; PCB DECAL: R0603; FPLIST: RC0402_25,RC0402_HD,RC0402_X2,0402_CC; CAD_APPROVED: Yes; MFG_PN01: MCR01MZPJ000; MFG_NAME01: ROHM; AGILE_PN: 470-75394; Source_Path: Q:\ORCADCIS\SYMBOLS\FCL_RESISTOR.OLB; CLASS: DISCRETE; ROHS: Yes; Tolerance: 5%; HEIGHT: 0.45 MM
footprint R0603
pins: 1, 2

## RES_5
designator R?  value 10K  PCB DECAL: R0603  (hidden comment: RES_5)
RES MF 10K 1/16W 5% 0402; FPLIST: RC0402_25,RC0402_HD,0402_CC; CAD_APPROVED: Yes; MFG_PN01: CRCW040210K0JNED; MFG_NAME01: VISHAY INTERTECHNOLOGY; AGILE_PN: 470-75557; Source_Path: F:\NXP\RT1020\SCH\IMXRT1021_0928_1.DSN; CLASS: DISCRETE; HEIGHT: 0.4 MM; ROHS: Yes; Tolerance: 5%
footprint R0603
pins: 1, 2

## RES_5_1
designator R?, comment value 39K  PCB DECAL: R0603  Tolerance: 1%  (hidden comment: RES_5)
RES MF 180K 1/10W 1% AEC-Q200 0402; AGILE_PN: 470-31088; MFG_NAME01: KOA SPEER; MFG_PN01: RK73H1ETTP1803F; CAD_APPROVED: Yes; FPLIST: RC0402_25,RC0402_HD,0402_CC; Temp_Range: -55C to +155C; Source_Path: F:\NXP\RT1020\SCH\IMXRT1021_0928_1.DSN; CLASS: DISCRETE; ROHS: Yes; HEIGHT: 0.40 MM
footprint R0603
pins: 1, 2

## RES_5_2
designator R?, comment value 3.3K  PCB DECAL: R0603  (hidden comment: RES_5)
RES MF 10K 1/16W 5% 0402; FPLIST: RC0402_25,RC0402_HD,0402_CC; CAD_APPROVED: Yes; MFG_PN01: CRCW040210K0JNED; MFG_NAME01: VISHAY INTERTECHNOLOGY; AGILE_PN: 470-75557; Source_Path: F:\NXP\RT1020\SCH\IMXRT1021_0928_1.DSN; CLASS: DISCRETE; HEIGHT: 0.4 MM; ROHS: Yes; Tolerance: 5%
footprint R0603
pins: 1, 2

## RES_5_3
designator R?, comment value 0R  PCB DECAL: R0603  (hidden comment: RES_5)
RES MF ZERO OHM 1/16W 5% 0402; AGILE_PN: 470-75394; MFG_NAME01: ROHM; MFG_PN01: MCR01MZPJ000; CAD_APPROVED: Yes; FPLIST: RC0402_25,RC0402_HD,RC0402_X2,0402_CC; Source_Path: F:\NXP\RT1020\SCH\IMXRT1021_0928_1.DSN; CLASS: DISCRETE; HEIGHT: 0.45 MM; Tolerance: 5%; ROHS: Yes
footprint R0603
pins: 1, 2

## RES_5_4
designator R?, comment value 90K  PCB DECAL: R0603  Tolerance: 1%  (hidden comment: RES_5)
RES MF 180K 1/10W 1% AEC-Q200 0402; AGILE_PN: 470-31088; MFG_NAME01: KOA SPEER; MFG_PN01: RK73H1ETTP1803F; CAD_APPROVED: Yes; FPLIST: RC0402_25,RC0402_HD,0402_CC; Temp_Range: -55C to +155C; Source_Path: F:\NXP\RT1020\SCH\IMXRT1021_0928_1.DSN; CLASS: DISCRETE; ROHS: Yes; HEIGHT: 0.40 MM
footprint R0603
pins: 1, 2

## RES_5_5
designator R?, comment value 30K  Tolerance: 1%  PCB DECAL: R0603  (hidden comment: RES_5)
RES MF 180K 1/10W 1% AEC-Q200 0402; AGILE_PN: 470-31088; MFG_NAME01: KOA SPEER; MFG_PN01: RK73H1ETTP1803F; CAD_APPROVED: Yes; FPLIST: RC0402_25,RC0402_HD,0402_CC; Temp_Range: -55C to +155C; Source_Path: F:\NXP\RT1020\SCH\IMXRT1021_0928_1.DSN; CLASS: DISCRETE; ROHS: Yes; HEIGHT: 0.40 MM
footprint R0603
pins: 1, 2

## RES_5_6
designator R?, comment value 124K  PCB DECAL: R0603  Tolerance: 1%  (hidden comment: RES_5)
RES MF 180K 1/10W 1% AEC-Q200 0402; Temp_Range: -55C to +155C; FPLIST: RC0402_25,RC0402_HD,0402_CC; CAD_APPROVED: Yes; MFG_PN01: RK73H1ETTP1803F; MFG_NAME01: KOA SPEER; AGILE_PN: 470-31088; Source_Path: F:\NXP\RT1020\SCH\IMXRT1021_0928_1.DSN; CLASS: DISCRETE; HEIGHT: 0.40 MM; ROHS: Yes
footprint R0603
pins: 1, 2

## RES_5_7
designator R?, comment value 100K  PCB DECAL: R0603  (hidden comment: RES_5)
RES MF 10K 1/16W 5% 0402; FPLIST: RC0402_25,RC0402_HD,0402_CC; CAD_APPROVED: Yes; MFG_PN01: CRCW040210K0JNED; MFG_NAME01: VISHAY INTERTECHNOLOGY; AGILE_PN: 470-75557; Source_Path: F:\NXP\RT1020\SCH\IMXRT1021_0928_1.DSN; CLASS: DISCRETE; HEIGHT: 0.4 MM; ROHS: Yes; Tolerance: 5%
footprint R0603
pins: 1, 2

## RES_5_8
designator R?, comment value 1K  PCB DECAL: R0603  (hidden comment: RES_5)
RES MF 10K 1/16W 5% 0402; AGILE_PN: 470-75557; MFG_NAME01: VISHAY INTERTECHNOLOGY; MFG_PN01: CRCW040210K0JNED; CAD_APPROVED: Yes; FPLIST: RC0402_25,RC0402_HD,0402_CC; Source_Path: F:\NXP\RT1020\SCH\IMXRT1021_0928_1.DSN; CLASS: DISCRETE; Tolerance: 5%; ROHS: Yes; HEIGHT: 0.4 MM
footprint R0603
pins: 1, 2

## RES_5_9
designator R?, comment value 20K  PCB DECAL: R0603  Tolerance: 1%  (hidden comment: RES_5)
RES MF 180K 1/10W 1% AEC-Q200 0402; Temp_Range: -55C to +155C; FPLIST: RC0402_25,RC0402_HD,0402_CC; CAD_APPROVED: Yes; MFG_PN01: RK73H1ETTP1803F; MFG_NAME01: KOA SPEER; AGILE_PN: 470-31088; Source_Path: F:\NXP\RT1020\SCH\IMXRT1021_0928_1.DSN; CLASS: DISCRETE; HEIGHT: 0.40 MM; ROHS: Yes
footprint R0603
pins: 1, 2

## RES_5_10
designator R?, comment value 4.7K  PCB DECAL: R0603  (hidden comment: RES_5)
RES MF 10K 1/16W 5% 0402; FPLIST: RC0402_25,RC0402_HD,0402_CC; CAD_APPROVED: Yes; MFG_PN01: CRCW040210K0JNED; MFG_NAME01: VISHAY INTERTECHNOLOGY; AGILE_PN: 470-75557; Source_Path: F:\NXP\RT1020\SCH\IMXRT1021_0928_1.DSN; CLASS: DISCRETE; HEIGHT: 0.4 MM; ROHS: Yes; Tolerance: 5%
footprint R0603
pins: 1, 2

## RES_5_11
designator R?, comment value 100R  PCB DECAL: R0603  (hidden comment: RES_5)
RES MF 4.7K 1/16W 5% 0402; FPLIST: RC0402_25,RC0402_HD,0402_CC; CAD_APPROVED: Yes; MFG_PN01: RK73B1ETTP472J; MFG_NAME01: KOA SPEER; AGILE_PN: 470-75626; Source_Path: F:\NXP\RT1020\SCH\IMXRT1021_0928_1.DSN; CLASS: DISCRETE; HEIGHT: 0.41mm; ROHS: Yes; Tolerance: 5%
footprint R0603
pins: 1, 2

## RES_5_12
designator R?, comment value NC  PCB DECAL: R0603  (hidden comment: RES_5)
RES MF 4.7K 1/16W 5% 0402; FPLIST: RC0402_25,RC0402_HD,0402_CC; CAD_APPROVED: Yes; MFG_PN01: RK73B1ETTP472J; MFG_NAME01: KOA SPEER; AGILE_PN: 470-75626; Source_Path: F:\NXP\RT1020\SCH\IMXRT1021_0928_1.DSN; CLASS: DISCRETE; HEIGHT: 0.41mm; ROHS: Yes; Tolerance: 5%
footprint R0603
pins: 1, 2

## RES_5_13
designator R?, comment value 2.2K  PCB DECAL: R0603  (hidden comment: RES_5)
RES MF 10K 1/16W 5% 0402; FPLIST: RC0402_25,RC0402_HD,0402_CC; CAD_APPROVED: Yes; MFG_PN01: CRCW040210K0JNED; MFG_NAME01: VISHAY INTERTECHNOLOGY; AGILE_PN: 470-75557; Source_Path: F:\NXP\RT1020\SCH\IMXRT1021_0928_1.DSN; CLASS: DISCRETE; ROHS: Yes; Tolerance: 5%; TOL: 5%; HEIGHT: 0.4 MM
footprint R0603
pins: 1, 2

## RES_5_14
designator R?, comment value 1K  (hidden comment: RES_5)
RES MF 220 OHM 1/10W 5% 0603; PCB DECAL: R0603; AGILE_PN: 470-30297; MFG_NAME01: KOA SPEER; MFG_PN01: RK73B1JTTD221J; CAD_APPROVED: Yes; FPLIST: RC0603_OV,RC0603,0603_CC; Source_Path: F:\NXP\RT1020\SCH\IMXRT1021_0928_1.DSN; CLASS: DISCRETE; Tolerance: 5%; ROHS: Yes; HEIGHT: 0.6MM
footprint R0603
pins: 1, 2

## RES_5_15
designator R?, comment value 10K  PCB DECAL: R0603  (hidden comment: RES_5)
RES MF 4.7K 1/16W 5% 0402; FPLIST: RC0402_25,RC0402_HD,0402_CC; CAD_APPROVED: Yes; MFG_PN01: RK73B1ETTP472J; MFG_NAME01: KOA SPEER; AGILE_PN: 470-75626; Source_Path: F:\NXP\RT1020\SCH\IMXRT1021_0928_1.DSN; CLASS: DISCRETE; HEIGHT: 0.41mm; ROHS: Yes; Tolerance: 5%
footprint R0603
pins: 1, 2

## RES_5_16
designator R?, comment value 20K  PCB DECAL: R0603  (hidden comment: RES_5)
RES MF 4.7K 1/16W 5% 0402; AGILE_PN: 470-75626; MFG_NAME01: KOA SPEER; MFG_PN01: RK73B1ETTP472J; CAD_APPROVED: Yes; FPLIST: RC0402_25,RC0402_HD,0402_CC; Source_Path: F:\NXP\RT1020\SCH\IMXRT1021_0928_1.DSN; CLASS: DISCRETE; Tolerance: 5%; ROHS: Yes; HEIGHT: 0.41mm
footprint R0603
pins: 1, 2

## RES_5_17
designator R?, comment value 4.7K  PCB DECAL: R0603  (hidden comment: RES_5)
RES MF 4.7K 1/16W 5% 0402; AGILE_PN: 470-75626; MFG_NAME01: KOA SPEER; MFG_PN01: RK73B1ETTP472J; CAD_APPROVED: Yes; FPLIST: RC0402_25,RC0402_HD,0402_CC; Source_Path: F:\NXP\RT1020\SCH\IMXRT1021_0928_1.DSN; CLASS: DISCRETE; Tolerance: 5%; ROHS: Yes; HEIGHT: 0.41mm
footprint R0603
pins: 1, 2

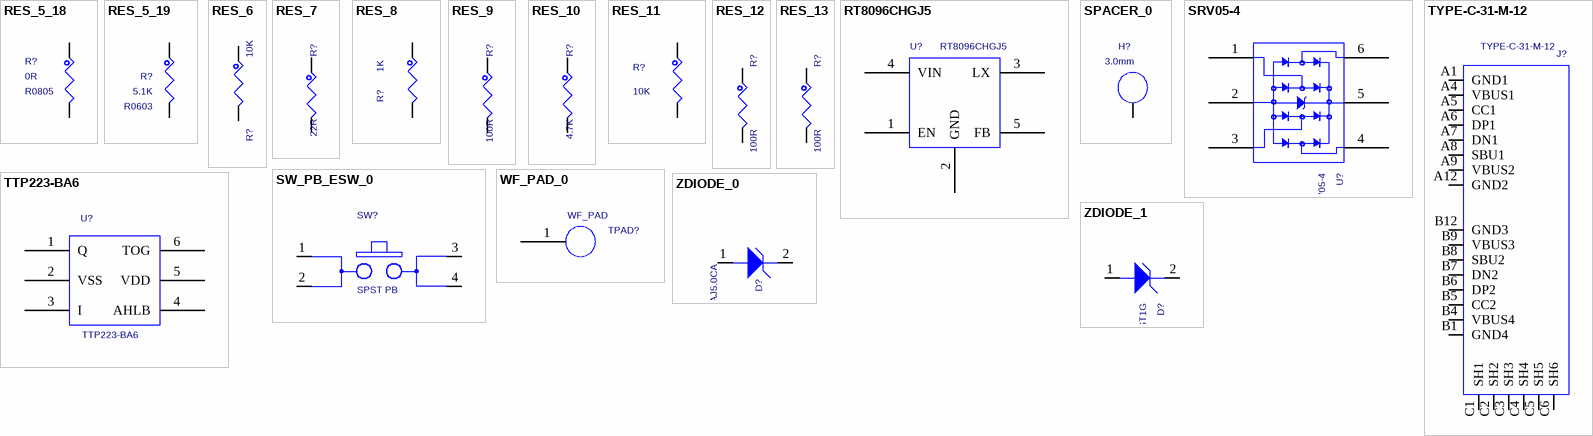
[diagram p3: symbols RES_5_18 to ZDIODE_1]

## RES_5_18
designator R?, comment value 0R  PCB DECAL: R0805  (hidden comment: RES_5)
RES MF 4.7K 1/16W 5% 0402; FPLIST: RC0402_25,RC0402_HD,0402_CC; CAD_APPROVED: Yes; MFG_PN01: RK73B1ETTP472J; MFG_NAME01: KOA SPEER; AGILE_PN: 470-75626; Source_Path: F:\NXP\RT1020\SCH\IMXRT1021_0928_1.DSN; CLASS: DISCRETE; HEIGHT: 0.41mm; ROHS: Yes; Tolerance: 5%
footprint R0805
pins: 1, 2

## RES_5_19
designator R?, comment value 5.1K  PCB DECAL: R0603  (hidden comment: RES_5)
RES MF 10K 1/16W 5% 0402; FPLIST: RC0402_25,RC0402_HD,0402_CC; CAD_APPROVED: Yes; MFG_PN01: CRCW040210K0JNED; MFG_NAME01: VISHAY INTERTECHNOLOGY; AGILE_PN: 470-75557; Source_Path: F:\NXP\RT1020\SCH\IMXRT1021_0928_1.DSN; CLASS: DISCRETE; HEIGHT: 0.4 MM; ROHS: Yes; Tolerance: 5%
footprint R0603
pins: 1, 2

## RES_6
designator R?, comment value 10K  (hidden comment: RES)
RES MF 1.0M 1/10W 5% 0402; FPLIST: RC0402_25,RC0402_HD,0402_CC; CAD_APPROVED: Yes; MFG_PN01: ERJ-2GEJ105X; MFG_NAME01: PANASONIC; AGILE_PN: 470-79978; PCB DECAL: R0603; Source_Path: Q:\ORCADCIS\SYMBOLS\FCL_RESISTOR.OLB; CLASS: DISCRETE; ROHS: Yes; Tolerance: 5%; HEIGHT: 0.4MM
footprint R0603
pins: 1, 2

## RES_7
designator R?, comment value 22R  (hidden comment: RES)
RES MF 1.0M 1/10W 5% 0402; AGILE_PN: 470-79978; MFG_NAME01: PANASONIC; MFG_PN01: ERJ-2GEJ105X; CAD_APPROVED: Yes; FPLIST: RC0402_25,RC0402_HD,0402_CC; PCB DECAL: R0603; Source_Path: Q:\ORCADCIS\SYMBOLS\FCL_RESISTOR.OLB; CLASS: DISCRETE; HEIGHT: 0.4MM; Tolerance: 5%; ROHS: Yes
footprint R0603
pins: 1, 2

## RES_8
designator R?, comment value 1K  (hidden comment: RES)
RES MF 1.0M 1/10W 5% 0402; PCB DECAL: R0603; FPLIST: RC0402_25,RC0402_HD,0402_CC; CAD_APPROVED: Yes; MFG_PN01: ERJ-2GEJ105X; MFG_NAME01: PANASONIC; AGILE_PN: 470-79978; Source_Path: Q:\ORCADCIS\SYMBOLS\FCL_RESISTOR.OLB; CLASS: DISCRETE; ROHS: Yes; Tolerance: 5%; HEIGHT: 0.4MM
footprint R0603
pins: 1, 2

## RES_9
designator R?, comment value 100R  (hidden comment: RES)
RES MF 1.0M 1/10W 5% 0402; PCB DECAL: R0603; AGILE_PN: 470-79978; MFG_NAME01: PANASONIC; MFG_PN01: ERJ-2GEJ105X; CAD_APPROVED: Yes; FPLIST: RC0402_25,RC0402_HD,0402_CC; Source_Path: Q:\ORCADCIS\SYMBOLS\FCL_RESISTOR.OLB; CLASS: DISCRETE; HEIGHT: 0.4MM; Tolerance: 5%; ROHS: Yes
footprint R0603
pins: 1, 2

## RES_10
designator R?, comment value 4.7K  (hidden comment: RES)
RES MF 1.0M 1/10W 5% 0402; PCB DECAL: R0603; FPLIST: RC0402_25,RC0402_HD,0402_CC; CAD_APPROVED: Yes; MFG_PN01: ERJ-2GEJ105X; MFG_NAME01: PANASONIC; AGILE_PN: 470-79978; Source_Path: Q:\ORCADCIS\SYMBOLS\FCL_RESISTOR.OLB; CLASS: DISCRETE; ROHS: Yes; Tolerance: 5%; HEIGHT: 0.4MM
footprint R0603
pins: 1, 2

## RES_11
designator R?, comment value 10K  (hidden comment: RES)
RES MF 10K 1/16W 5% 0402; AGILE_PN: 470-75557; MFG_NAME01: VISHAY INTERTECHNOLOGY; MFG_PN01: CRCW040210K0JNED; CAD_APPROVED: Yes; FPLIST: RC0402_25,RC0402_HD,0402_CC; PCB DECAL: R0603; Source_Path: Q:\ORCADCIS\SYMBOLS\FCL_RESISTOR.OLB; CLASS: DISCRETE; HEIGHT: 0.4 MM; TOL: 5%; Tolerance: 5%; ROHS: Yes
footprint R0603
pins: 1, 2

## RES_12
designator R?, comment value 100R  (hidden comment: RES)
RES MF 100 OHM 1/16W 1% 0402; FPLIST: RC0402_25,RC0402_HD,0402_CC; CAD_APPROVED: Yes; MFG_PN01: CR-02FL6--100R; MFG_NAME01: THYE MING TECH CO LTD; AGILE_PN: 470-30454; PCB DECAL: R0603; Source_Path: Q:\ORCADCIS\SYMBOLS\FCL_RESISTOR.OLB; CLASS: DISCRETE; ROHS: Yes; Tolerance: 1%; HEIGHT: 0.4 MM
footprint R0603
pins: 1, 2

## RES_13
designator R?, comment value 100R  (hidden comment: RES)
RES MF ZERO OHM 1/16W 5% 0402; AGILE_PN: 470-75394; MFG_NAME01: ROHM; MFG_PN01: MCR01MZPJ000; CAD_APPROVED: Yes; FPLIST: RC0402_25,RC0402_HD,RC0402_X2,0402_CC; PCB DECAL: R0603; Source_Path: Q:\ORCADCIS\SYMBOLS\FCL_RESISTOR.OLB; CLASS: DISCRETE; HEIGHT: 0.45 MM; Tolerance: 5%; ROHS: Yes
footprint R0603
pins: 1, 2

## RT8096CHGJ5
designator U?
PCB DECAL: TSOT-23-5; Source_Path: F:\SCH-PCB\EBF_L001\SCH\LIBRARY1.OLB; Value: RT8096CHGJ5
footprint TSOT-23-5
pins: 1 EN, 2 GND, 3 LX, 4 VIN, 5 FB

## SPACER_0
designator H?  value 3.0mm  (hidden comment: SPACER_0)
FASTENER, STANDOFF 4.5MMX3.53XM3.0X0.5 ROUND THR .635"L BRASS; PCB DECAL: T4R2-6R2_BOTSMT; CAD_APPROVED: Yes; ASSY_OPT: DNP; MFG_PN01: MSS251-R-1-A-16; MFG_NAME01: UNICORP; AGILE_PN: 280-76498; Source_Path: H:\NXP_RT1050\SCH\IMXRT1052.DSN; CLASS: IC; HEIGHT: 16.13MM; ROHS: Yes
footprint T4R2-6R2_BOTSMT
pins: 1 NC_1

## SRV05-4
designator U?
DIODE TVS ARRAY 12A 5V 300W SOT23_S6; CAD_APPROVED: Yes; ASSY_OPT: DNP; MFG_PN01: SRV05-4.TCT; MFG_NAME01: SEMTECH CORP; AGILE_PN: 480-75205; Source_Path: Q:\ORCADCIS\SYMBOLS\FCL_SEMICONDUCTOR.OLB; CLASS: IC; PCB DECAL: SOT23_S6; HEIGHT: 1.45mm; ROHS: Yes; Value: SRV05-4
footprint SOT23_S6
pins: 1 I/O1, 2 GND, 3 I/O3, 4 I/O4, 5 VCC, 6 I/O6

## SW_PB_ESW_0
designator SW?  value SPST PB  (hidden comment: SW_PB_ESW_0)
SW SPST MOM NO PB TACT 50mA 50V SMT; AGILE_PN: 510-77562; MFG_NAME01: E SWITCH; MFG_PN01: TL3301AF260QG/TR; CAD_APPROVED: Yes; PCB DECAL: SW_3_2X4_2; Source_Path: H:\NXP_RT1050\SCH\IMXRT1052_MB.DSN; CLASS: IC; ROHS: Yes; HEIGHT: 5MM
footprint SW_3_2X4_2
pins: 1 A1, 2 A2, 3 B1, 4 B2

## TTP223-BA6
designator U?
PCB DECAL: SOT23-6; Source_Path: F:\SCH-PCB\FPGA\EBF_F002\SCH\EBF_F002.OLB; Value: TTP223-BA6
footprint SOT23-6
pins: 1 Q, 2 VSS, 3 I, 4 AHLB, 5 VDD, 6 TOG

## TYPE-C-31-M-12
designator J?
Source_Path: C:\MYPROGRAM\CADENCE\SPB_16.6\TOOLS\CAPTURE\LIBRARY\SCH.OLB; PCB DECAL: TYPE-C-31-M-12; Value: TYPE-C-31-M-12
footprint TYPE-C-31-M-12
pins: A1 GND1, A4 VBUS1, A5 CC1, A6 DP1, A7 DN1, A8 SBU1, A9 VBUS2, A12 GND2, B1 GND4, B4 VBUS4, B5 CC2, B6 DP2, B7 DN2, B8 SBU2, B9 VBUS3, B12 GND3, C1 SH1, C2 SH2, C3 SH3, C4 SH4, C5 SH5, C6 SH6

## WF_PAD_0
designator TPAD?  value WF_PAD  (hidden comment: WF_PAD_0)
Source_Path: H:\NXP_RT1050\SCH\IMXRT1052_MB.DSN; PCB DECAL: WF_PAD
footprint WF_PAD
pins: 1

## ZDIODE_0
designator D?  value SMAJ5.0CA  (hidden comment: ZDIODE_0)
DIODE ZNR -- 0.2W 5.1V AEC-Q101 SOD523; PCB DECAL: DO214; AGILE_PN: 480-77217; MFG_NAME01: ON SEMICONDUCTOR; MFG_PN01: MM5Z5V1ST1G; CAD_APPROVED: Yes; Source_Path: H:\NXP_RT1050\SCH\IMXRT1052_MB.DSN; CLASS: IC; ROHS: Yes; HEIGHT: 0.7MM
footprint DO214
pins: 1 ANODE, 2 CATHODE

## ZDIODE_1
designator D?  value MM5Z5V1ST1G  (hidden comment: ZDIODE_1)
DIODE ZNR -- 0.2W 5.1V AEC-Q101 SOD523; AGILE_PN: 480-77217; MFG_NAME01: ON SEMICONDUCTOR; CAD_APPROVED: Yes; Source_Path: F:\SCH-PCB\EBF_L007\EBF6ULL_MINI_V1.0\SCH\EBF_L007_PWR_190822.DSN; CLASS: IC; PCB DECAL: SOD523; MFG_PN01: MM5Z5V1ST1G; ROHS: Yes; HEIGHT: 0.7MM
footprint SOD523
pins: 1 ANODE, 2 CATHODE